# Altium schematic symbol library Allwinner.SchLib: 2 symbols
Pins are listed as number, name and electrical type; pins without a type are passive.

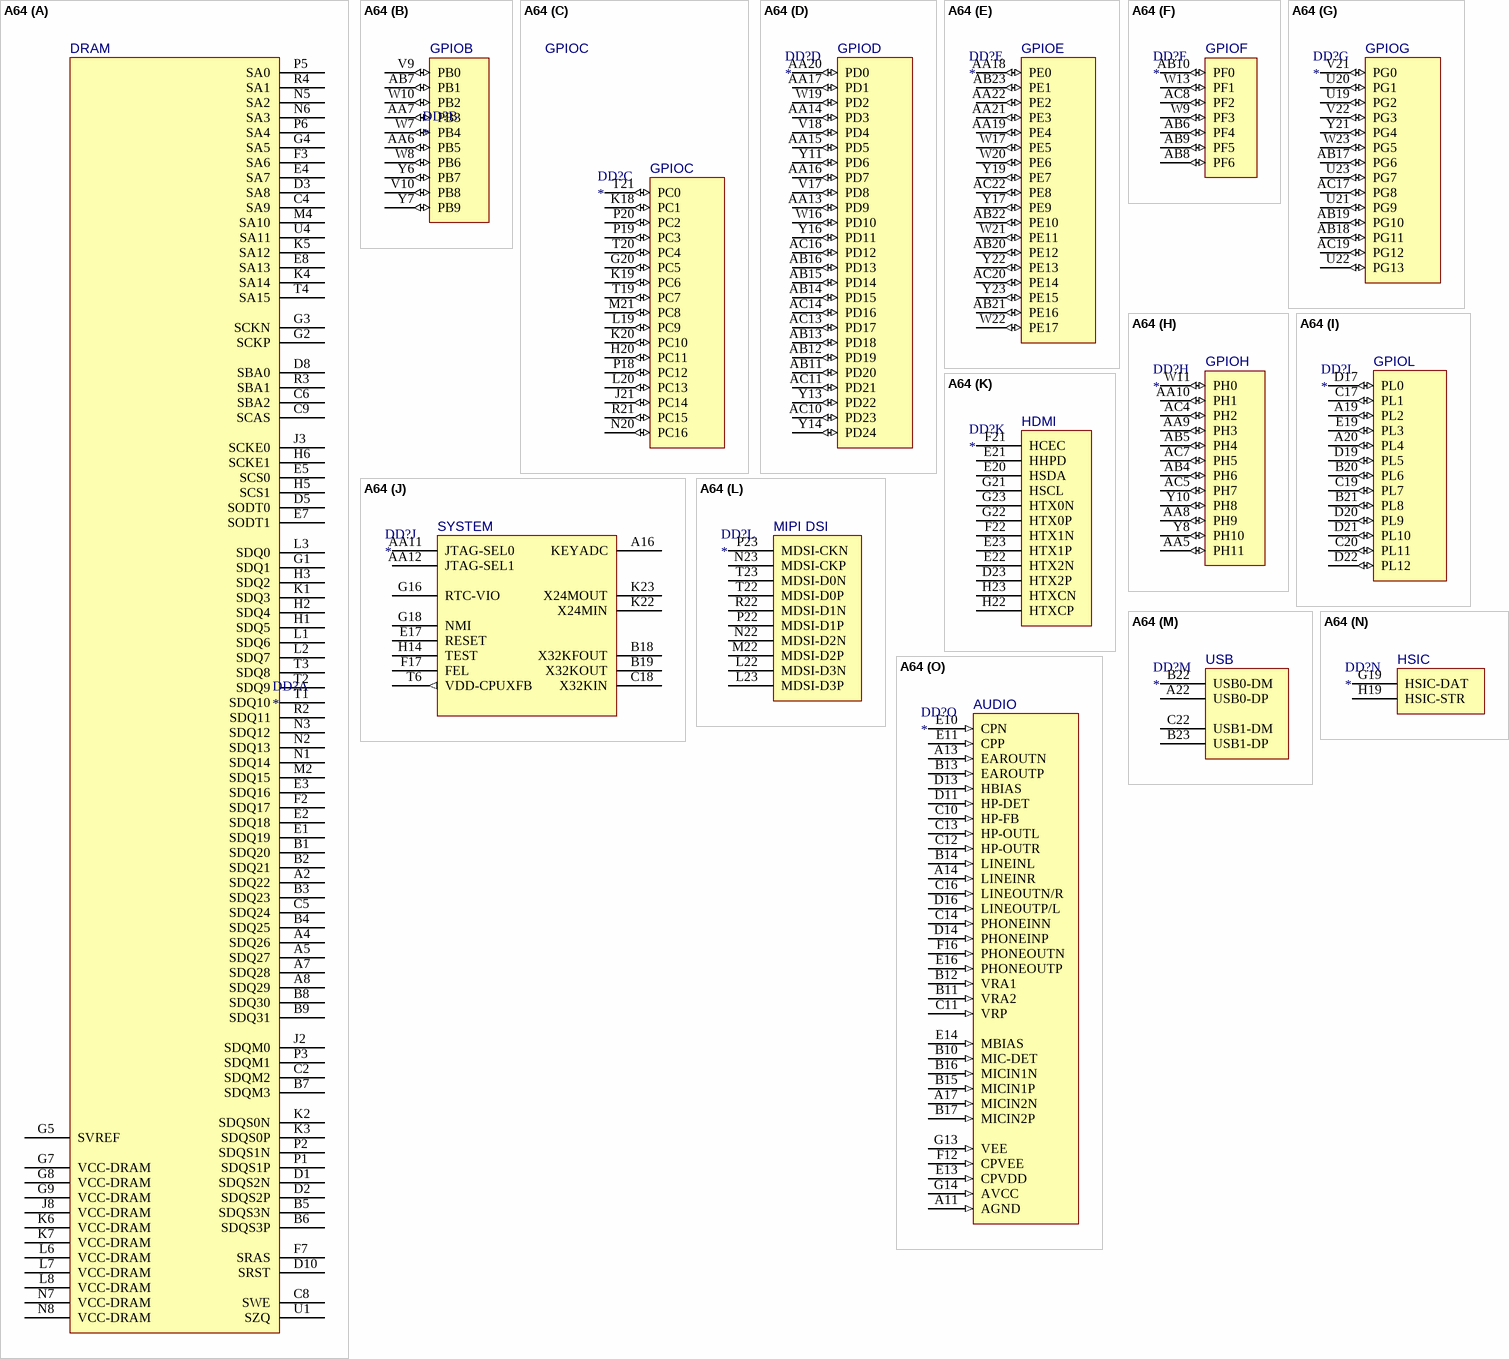
[diagram p0: symbol A64]

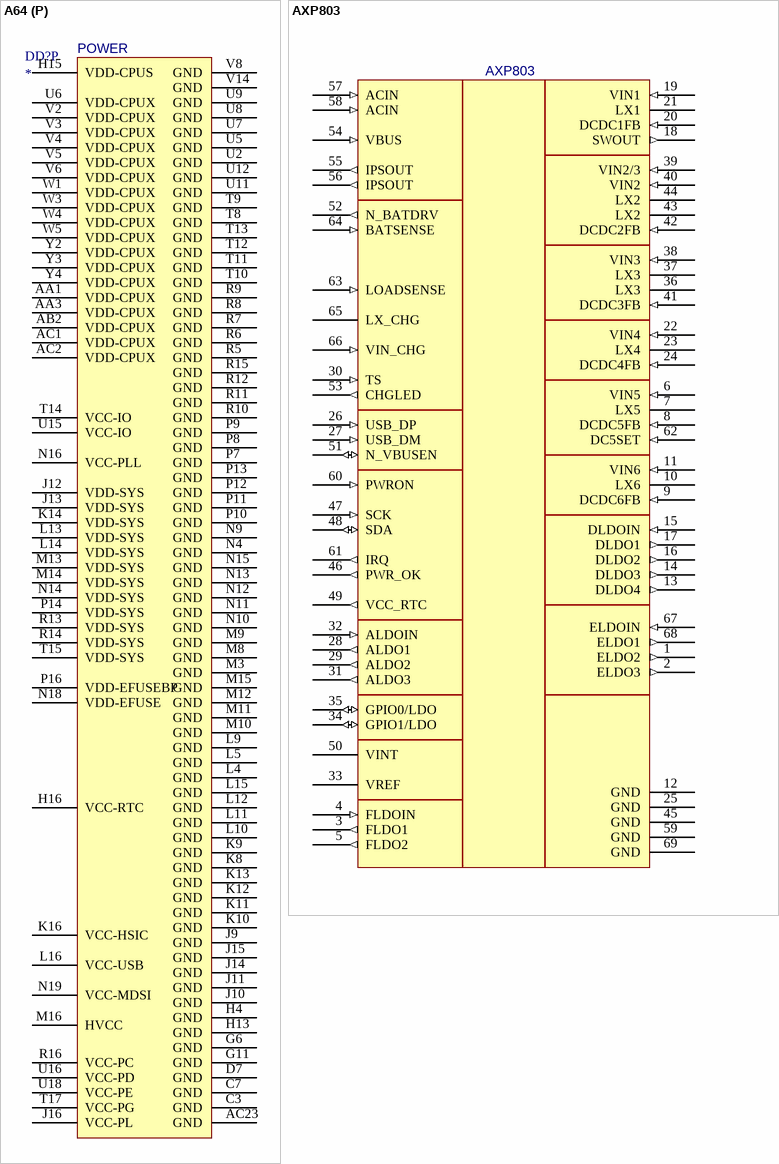
[diagram p1: symbols A64 to AXP803]

## A64
designator DD?
4xA53
footprint BGA396C65P23X23_1500X1500X130 (BGA, 396-Leads, Body 15.00x15.00mmx1.30mm, Pitch 0.65mm)
part A pins: A2 SDQ22, A4 SDQ26, A5 SDQ27, A7 SDQ28, A8 SDQ29, B1 SDQ20, B2 SDQ21, B3 SDQ23, B4 SDQ25, B5 SDQS3N, B6 SDQS3P, B7 SDQM3, B8 SDQ30, B9 SDQ31, C2 SDQM2, C4 SA9 "DRAM", C5 SDQ24, C6 SBA2, C8 SWE, C9 SCAS, D1 SDQS2N, D2 SDQS2P, D3 SA8 "DRAM", D5 SODT0, D8 SBA0, D10 SRST, E1 SDQ19, E2 SDQ18, E3 SDQ16, E4 SA7 "DRAM", E5 SCS0, E7 SODT1, E8 SA13 "DRAM", F2 SDQ17, F3 SA6 "DRAM", F7 SRAS, G1 SDQ1, G2 SCKP, G3 SCKN, G4 SA5 "DRAM", G5 SVREF, G7 VCC-DRAM (power), G8 VCC-DRAM (power), G9 VCC-DRAM (power), H1 SDQ5, H2 SDQ4, H3 SDQ2, H5 SCS1, H6 SCKE1, J2 SDQM0, J3 SCKE0, J8 VCC-DRAM (power), K1 SDQ3, K2 SDQS0N, K3 SDQS0P, K4 SA14 "DRAM", K5 SA12 "DRAM", K6 VCC-DRAM (power), K7 VCC-DRAM (power), L1 SDQ6, L2 SDQ7, L3 SDQ0, L6 VCC-DRAM (power), L7 VCC-DRAM (power), L8 VCC-DRAM (power), M2 SDQ15, M4 SA10 "DRAM", N1 SDQ14, N2 SDQ13, N3 SDQ12, N5 SA2 "DRAM", N6 SA3 "DRAM", N7 VCC-DRAM (power), N8 VCC-DRAM  (power), P1 SDQS1P, P2 SDQS1N, P3 SDQM1, P5 SA0 "DRAM", P6 SA4 "DRAM", R2 SDQ11, R3 SBA1, R4 SA1 "DRAM", T1 SDQ10, T2 SDQ9, T3 SDQ8, T4 SA15 "DRAM", U1 SZQ, U4 SA11 "DRAM"
part B pins: AA6 PB5 (io), AA7 PB3 (io), AB7 PB1 (io), V9 PB0 (io), V10 PB8 (io), W7 PB4 (io), W8 PB6 (io), W10 PB2 (io), Y6 PB7 (io), Y7 PB9 (io)
part C pins: G20 PC5 (io), H20 PC11 (io), J21 PC14 (io), K18 PC1 (io), K19 PC6 (io), K20 PC10 (io), L19 PC9 (io), L20 PC13 (io), M21 PC8 (io), N20 PC16 (io), P18 PC12 (io), P19 PC3 (io), P20 PC2 (io), R21 PC15 (io), T19 PC7 (io), T20 PC4 (io), T21 PC0 (io)
part D pins: AA13 PD9 (io), AA14 PD3 (io), AA15 PD5 (io), AA16 PD7 (io), AA17 PD1 (io), AA20 PD0 (io), AB11 PD20 (io), AB12 PD19 (io), AB13 PD18 (io), AB14 PD15 (io), AB15 PD14 (io), AB16 PD13 (io), AC10 PD23 (io), AC11 PD21 (io), AC13 PD17 (io), AC14 PD16 (io), AC16 PD12 (io), V17 PD8 (io), V18 PD4 (io), W16 PD10 (io), W19 PD2 (io), Y11 PD6 (io), Y13 PD22 (io), Y14 PD24 (io), Y16 PD11 (io)
part E pins: AA18 PE0 (io), AA19 PE4 (io), AA21 PE3 (io), AA22 PE2 (io), AB20 PE12 (io), AB21 PE16 (io), AB22 PE10 (io), AB23 PE1 (io), AC20 PE14 (io), AC22 PE8 (io), W17 PE5 (io), W20 PE6 (io), W21 PE11 (io), W22 PE17 (io), Y17 PE9 (io), Y19 PE7 (io), Y22 PE13 (io), Y23 PE15 (io)
part F pins: AB6 PF4 (io), AB8 PF6 (io), AB9 PF5 (io), AB10 PF0 (io), AC8 PF2 (io), W9 PF3 (io), W13 PF1 (io)
part G pins: AB17 PG6 (io), AB18 PG11 (io), AB19 PG10 (io), AC17 PG8 (io), AC19 PG12 (io), U19 PG2 (io), U20 PG1 (io), U21 PG9 (io), U22 PG13 (io), U23 PG7 (io), V21 PG0 (io), V22 PG3 (io), W23 PG5 (io), Y21 PG4 (io)
part H pins: AA5 PH11 (io), AA8 PH9 (io), AA9 PH3 (io), AA10 PH1 (io), AB4 PH6 (io), AB5 PH4 (io), AC4 PH2 (io), AC5 PH7 (io), AC7 PH5 (io), W11 PH0 (io), Y8 PH10 (io), Y10 PH8 (io)
part I pins: A19 PL2 (io), A20 PL4 (io), B20 PL6 (io), B21 PL8 (io), C17 PL1 (io), C19 PL7 (io), C20 PL11 (io), D17 PL0 (io), D19 PL5 (io), D20 PL9 (io), D21 PL10 (io), D22 PL12 (io), E19 PL3 (io)
part J pins: A16 KEYADC, AA11 JTAG-SEL0, AA12 JTAG-SEL1, B18 X32KFOUT, B19 X32KOUT, C18 X32KIN, E17 RESET, F17 FEL, G16 RTC-VIO (power), G18 NMI, H14 TEST, K22 X24MIN, K23 X24MOUT, T6 VDD-CPUXFB (out)
part K pins: D23 HTX2P, E20 HSDA, E21 HHPD, E22 HTX2N, E23 HTX1P, F21 HCEC, F22 HTX1N, G21 HSCL, G22 HTX0P, G23 HTX0N, H22 HTXCP, H23 HTXCN
part L pins: L22 MDSI-D3N, L23 MDSI-D3P, M22 MDSI-D2P, N22 MDSI-D2N, N23 MDSI-CKP, P22 MDSI-D1P, P23 MDSI-CKN, R22 MDSI-D1N, T22 MDSI-D0P, T23 MDSI-D0N
part M pins: A22 USB0-DP, B22 USB0-DM, B23 USB1-DP, C22 USB1-DM
part N pins: G19 HSIC-DAT, H19 HSIC-STR
part O pins: A11 AGND (in), A13 EAROUTN (in), A14 LINEINR (in), A17 MICIN2N (in), B10 MIC-DET (in), B11 VRA2 (in), B12 VRA1 (in), B13 EAROUTP (in), B14 LINEINL (in), B15 MICIN1P (in), B16 MICIN1N (in), B17 MICIN2P (in), C10 HP-FB (in), C11 VRP (in), C12 HP-OUTR (in), C13 HP-OUTL (in), C14 PHONEINN (in), C16 LINEOUTN/R (in), D11 HP-DET (in), D13 HBIAS (in), D14 PHONEINP (in), D16 LINEOUTP/L (in), E10 CPN (in), E11 CPP (in), E13 CPVDD (in), E14 MBIAS (in), E16 PHONEOUTP (in), F12 CPVEE (in), F16 PHONEOUTN (in), G13 VEE (in), G14 AVCC (in)
part P pins: AA1 VDD-CPUX (power), AA3 VDD-CPUX (power), AB2 VDD-CPUX (power), AC1 VDD-CPUX (power), AC2 VDD-CPUX (power), AC23 GND (power), C3 GND (power), C7 GND (power), D7 GND (power), G6 GND (power), G11 GND (power), H4 GND (power), H13 GND (power), H15 VDD-CPUS (power), H16 VCC-RTC (power), J9 GND (power), J10 GND (power), J11 GND (power), J12 VDD-SYS (power), J13 VDD-SYS (power), J14 GND (power), J15 GND (power), J16 VCC-PL (power), K8 GND (power), K9 GND (power), K10 GND (power), K11 GND (power), K12 GND (power), K13 GND (power), K14 VDD-SYS (power), K16 VCC-HSIC (power), L4 GND (power), L5 GND (power), L9 GND (power), L10 GND (power), L11 GND (power), L12 GND (power), L13 VDD-SYS (power), L14 VDD-SYS (power), L15 GND (power), L16 VCC-USB (power), M3 GND (power), M8 GND (power), M9 GND (power), M10 GND (power), M11 GND (power), M12 GND (power), M13 VDD-SYS (power), M14 VDD-SYS (power), M15 GND (power), M16 HVCC (power), N4 GND (power), N9 GND (power), N10 GND (power), N11 GND (power), N12 GND (power), N13 GND (power), N14 VDD-SYS (power), N15 GND (power), N16 VCC-PLL (power), N18 VDD-EFUSE (power), N19 VCC-MDSI (power), P7 GND (power), P8 GND (power), P9 GND (power), P10 GND (power), P11 GND (power), P12 GND (power), P13 GND (power), P14 VDD-SYS (power), P16 VDD-EFUSEBP (power), R5 GND (power), R6 GND (power), R7 GND (power), R8 GND (power), R9 GND (power), R10 GND (power), R11 GND (power), R12 GND (power), R13 VDD-SYS (power), R14 VDD-SYS (power), R15 GND (power), R16 VCC-PC (power), T8 GND (power), T9 GND (power), T10 GND (power), T11 GND (power), T12 GND (power), T13 GND (power), T14 VCC-IO (power), T15 VDD-SYS (power), T17 VCC-PG (power), U2 GND (power), U5 GND (power), U6 VDD-CPUX (power), U7 GND (power), U8 GND (power), U9 GND (power), U11 GND (power), U12 GND (power), U15 VCC-IO (power), U16 VCC-PD (power), U18 VCC-PE (power), V2 VDD-CPUX (power), V3 VDD-CPUX (power), V4 VDD-CPUX (power), V5 VDD-CPUX (power), V6 VDD-CPUX (power), V8 GND (power), V14 GND (power), W1 VDD-CPUX (power), W3 VDD-CPUX (power), W4 VDD-CPUX (power), W5 VDD-CPUX (power), Y2 VDD-CPUX (power), Y3 VDD-CPUX (power), Y4 VDD-CPUX (power)
part A text: DRAM
part B text: GPIOB
part C text: GPIOC
part D text: GPIOD
part E text: GPIOE
part F text: GPIOF
part G text: GPIOG
part H text: GPIOH
part I text: GPIOL
part J text: SYSTEM
part K text: HDMI
part L text: MIPI DSI
part M text: USB
part N text: HSIC
part O text: AUDIO
part P text: POWER

## AXP803
designator *
footprint PQFN40P800X800X80_HS-69M (PQFN, 68-Leads, Body 8.00x8.00mm, Pitch 0.40mm, Thermal Pad 5.49x5.49mm, IPC Low Density)
pins: 1 ELDO2 (out), 2 ELDO3 (out), 3 FLDO1 (out), 4 FLDOIN (in), 5 FLDO2 (out), 6 VIN5 (in), 7 LX5, 8 DCDC5FB (in), 9 DCDC6FB (in), 10 LX6, 11 VIN6 (in), 12 GND (power), 13 DLDO4 (out), 14 DLDO3 (out), 15 DLDOIN (in), 16 DLDO2 (out), 17 DLDO1 (out), 18 SWOUT (out), 19 VIN1 (in), 20 DCDC1FB (in), 21 LX1, 22 VIN4 (in), 23 LX4, 24 DCDC4FB (in), 25 GND (power), 26 USB_DP (in), 27 USB_DM (in), 28 ALDO1 (out), 29 ALDO2 (out), 30 TS (in), 31 ALDO3 (out), 32 ALDOIN (in), 33 VREF, 34 GPIO1/LDO (io), 35 GPIO0/LDO (io), 36 LX3, 37 LX3, 38 VIN3 (in), 39 VIN2/3 (in), 40 VIN2 (in), 41 DCDC3FB (in), 42 DCDC2FB (in), 43 LX2, 44 LX2, 45 GND (power), 46 PWR_OK (out), 47 SCK (in), 48 SDA (io), 49 VCC_RTC (out), 50 VINT, 51 N_VBUSEN (io), 52 N_BATDRV (out), 53 CHGLED (out), 54 VBUS (in), 55 IPSOUT (out), 56 IPSOUT (out), 57 ACIN (in), 58 ACIN (in), 59 GND (power), 60 PWRON (in), 61 IRQ (out), 62 DC5SET (in), 63 LOADSENSE (in), 64 BATSENSE (in), 65 LX_CHG, 66 VIN_CHG (in), 67 ELDOIN (in), 68 ELDO1 (out), 69 GND (power)